# EAGLE library part HEADER-11P-1R (library deiring-components)
Header 11 Pin 1 Row
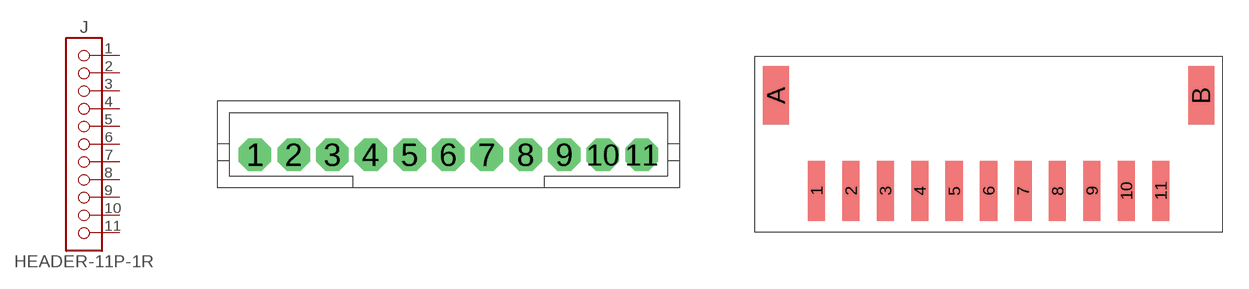
[diagram p38: symbol with the pads of JST-B11B-PH-K-S; footprints JST-B11B-PH-K-S, JST-S11B-PH-SM4-TB]

Designator prefix J

## HEADER-11P-1R-B11B-PH-K-S (LCSC: C158032; MF: JST Sales America; MPN: B11B-PH-K-S(LF)(SN); VALUE: 11P)  [JST-B11B-PH-K-S]
1  01  pas
2  02  pas
3  03  pas
4  04  pas
5  05  pas
6  06  pas
7  07  pas
8  08  pas
9  09  pas
10  10  pas
11  11  pas

## HEADER-11P-1R-S11B-PH-SM4-TB (MF: JST Sales America; MPN: S11B-PH-SM4-TB(LF)(SN); VALUE: 11P)  [JST-S11B-PH-SM4-TB]
Pads as for JST-B11B-PH-K-S

## HEADER-11P-1R-S11B-PH-K-S (LCSC: C157945; MF: JST Sales America; MPN: S11B-PH-K-S(LF)(SN); VALUE: 11P)  [JST-S11B-PH-K-S]
Pads as for JST-B11B-PH-K-S

## HEADER-11P-1R-B11B-PH-SM4-TB (LCSC: C515952; MF: JST Sales America; MPN: B11B-PH-SM4-TB(LF)(SN); VALUE: 11P)  [JST-B11B-PH-SM4-TB]
Pads as for JST-B11B-PH-K-S

## HEADER-11P-1R-KF2EDGV-5.08-11P (MF: Cixi Kefa Elec; MPN: KF2EDGV-5.08-11P; VALUE: 11P)  [KF2EDGV-5.08-11P]
Pads as for JST-B11B-PH-K-S

## HEADER-11P-1R-WJ15EDGVC-3.81-11P (LCSC: C48703; MF: Ningbo Kangnex Elec; MPN: WJ15EDGVC-3.81-11P; VALUE: 11P)  [WJ15EDGVC-3.81-11P]
Pads as for JST-B11B-PH-K-S

## HEADER-11P-1R-KF2EDGR-5.08-11P (MF: Cixi Kefa Elec; MPN: KF2EDGR-5.08-11P; VALUE: 11P)  [KF2EDGR-5.08-11P]
Pads as for JST-B11B-PH-K-S

## Footprint JST-B11B-PH-K-S (pad centres in mm)
drill 0.813 pad 1.676 octagon: 1 -10,0; 2 -8,0; 3 -6,0; 4 -4,0; 5 -2,0; 6 0,0; 7 2,0; 8 4,0; 9 6,0; 10 8,0; 11 10,0

## Footprint JST-S11B-PH-SM4-TB (pad centres in mm)
smd 1 x 3.5: 1 -10,0; 2 -8,0; 3 -6,0; 4 -4,0; 5 -2,0; 6 0,0; 7 2,0; 8 4,0; 9 6,0; 10 8,0; 11 10,0
smd 1.5 x 3.4: A -12.35,5.55; B 12.35,5.55

## Footprint JST-S11B-PH-K-S (pad centres in mm)
drill 0.813 pad 1.676 octagon: 1 -10,0; 2 -8,0; 3 -6,0; 4 -4,0; 5 -2,0; 6 0,0; 7 2,0; 8 4,0; 9 6,0; 10 8,0; 11 10,0

## Footprint JST-B11B-PH-SM4-TB (pad centres in mm)
smd 1 x 5.5: 1 -10,0; 2 -8,0; 3 -6,0; 4 -4,0; 5 -2,0; 6 0,0; 7 2,0; 8 4,0; 9 6,0; 10 8,0; 11 10,0
smd 1.6 x 3: A -12.4,2.25; B 12.4,2.25

## Footprint KF2EDGV-5.08-11P (pad centres in mm)
drill 1.6: 1 -25.4,0; 2 -20.32,0; 3 -15.24,0; 4 -10.16,0; 5 -5.08,0; 6 0,0; 7 5.08,0; 8 10.16,0; 9 15.24,0; 10 20.32,0; 11 25.4,0

## Footprint WJ15EDGVC-3.81-11P (pad centres in mm)
drill 1.2 pad 2: 1 -19.05,0; 2 -15.24,0; 3 -11.43,0; 4 -7.62,0; 5 -3.81,0; 6 0,0; 7 3.81,0; 8 7.62,0; 9 11.43,0; 10 15.24,0; 11 19.05,0

## Footprint KF2EDGR-5.08-11P (pad centres in mm)
drill 1.6: 1 -25.4,0; 2 -20.32,0; 3 -15.24,0; 4 -10.16,0; 5 -5.08,0; 6 0,0; 7 5.08,0; 8 10.16,0; 9 15.24,0; 10 20.32,0; 11 25.4,0